# EAGLE library part ISP2032T (library AMD_Taxi)
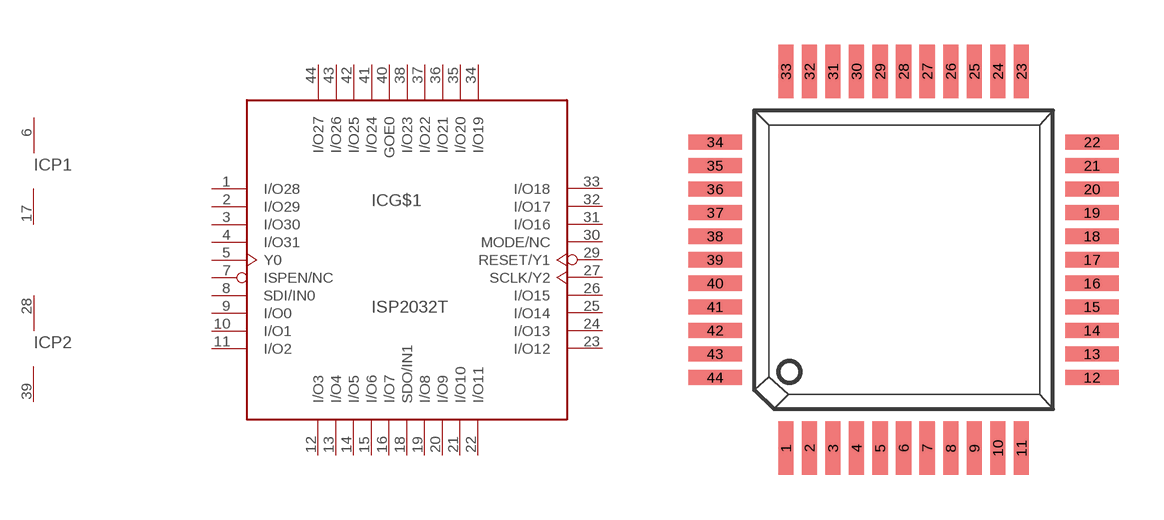
[diagram p4: symbol with the pads of QFP44; footprint QFP44]

Designator prefix IC; gates G$1=ISP2032T P1=PWRN P2=PWRN

## ISP2032T  [QFP44]
1  G$1:I/O28
2  G$1:I/O29
3  G$1:I/O30
4  G$1:I/O31
5  G$1:Y0  in
6  P1:VCC  pwr
7  G$1:ISPEN/NC  in
8  G$1:SDI/IN0  in
9  G$1:I/O0
10  G$1:I/O1
11  G$1:I/O2
12  G$1:I/O3
13  G$1:I/O4
14  G$1:I/O5
15  G$1:I/O6
16  G$1:I/O7
17  P1:GND  pwr
18  G$1:SDO/IN1
19  G$1:I/O8
20  G$1:I/O9
21  G$1:I/O10
22  G$1:I/O11
23  G$1:I/O12
24  G$1:I/O13
25  G$1:I/O14
26  G$1:I/O15
27  G$1:SCLK/Y2  in
28  P2:VCC  pwr
29  G$1:RESET/Y1  in
30  G$1:MODE/NC  in
31  G$1:I/O16
32  G$1:I/O17
33  G$1:I/O18
34  G$1:I/O19
35  G$1:I/O20
36  G$1:I/O21
37  G$1:I/O22
38  G$1:I/O23
39  P2:GND  pwr
40  G$1:GOE0  in
41  G$1:I/O24
42  G$1:I/O25
43  G$1:I/O26
44  G$1:I/O27

## Footprint QFP44 (pad centres in mm)
smd 0.508 x 1.778: 1 -3.937,-6.299; 2 -3.15,-6.299; 3 -2.362,-6.299; 4 -1.575,-6.299; 5 -0.787,-6.299; 6 0,-6.299; 7 0.787,-6.299; 8 1.575,-6.299; 9 2.362,-6.299; 10 3.15,-6.299; 11 3.937,-6.299; 23 3.937,6.299; 24 3.15,6.299; 25 2.362,6.299; 26 1.575,6.299; 27 0.787,6.299; 28 0,6.299; 29 -0.787,6.299; 30 -1.575,6.299; 31 -2.362,6.299; 32 -3.15,6.299; 33 -3.937,6.299
smd 1.778 x 0.508: 12 6.299,-3.937; 13 6.299,-3.15; 14 6.299,-2.362; 15 6.299,-1.575; 16 6.299,-0.787; 17 6.299,0; 18 6.299,0.787; 19 6.299,1.575; 20 6.299,2.362; 21 6.299,3.15; 22 6.299,3.937; 34 -6.299,3.937; 35 -6.299,3.15; 36 -6.299,2.362; 37 -6.299,1.575; 38 -6.299,0.787; 39 -6.299,0; 40 -6.299,-0.787; 41 -6.299,-1.575; 42 -6.299,-2.362; 43 -6.299,-3.15; 44 -6.299,-3.937